# Altium integrated library trimble.IntLib: 14 symbols
Pins are listed as number, name and electrical type; pins without a type are passive.

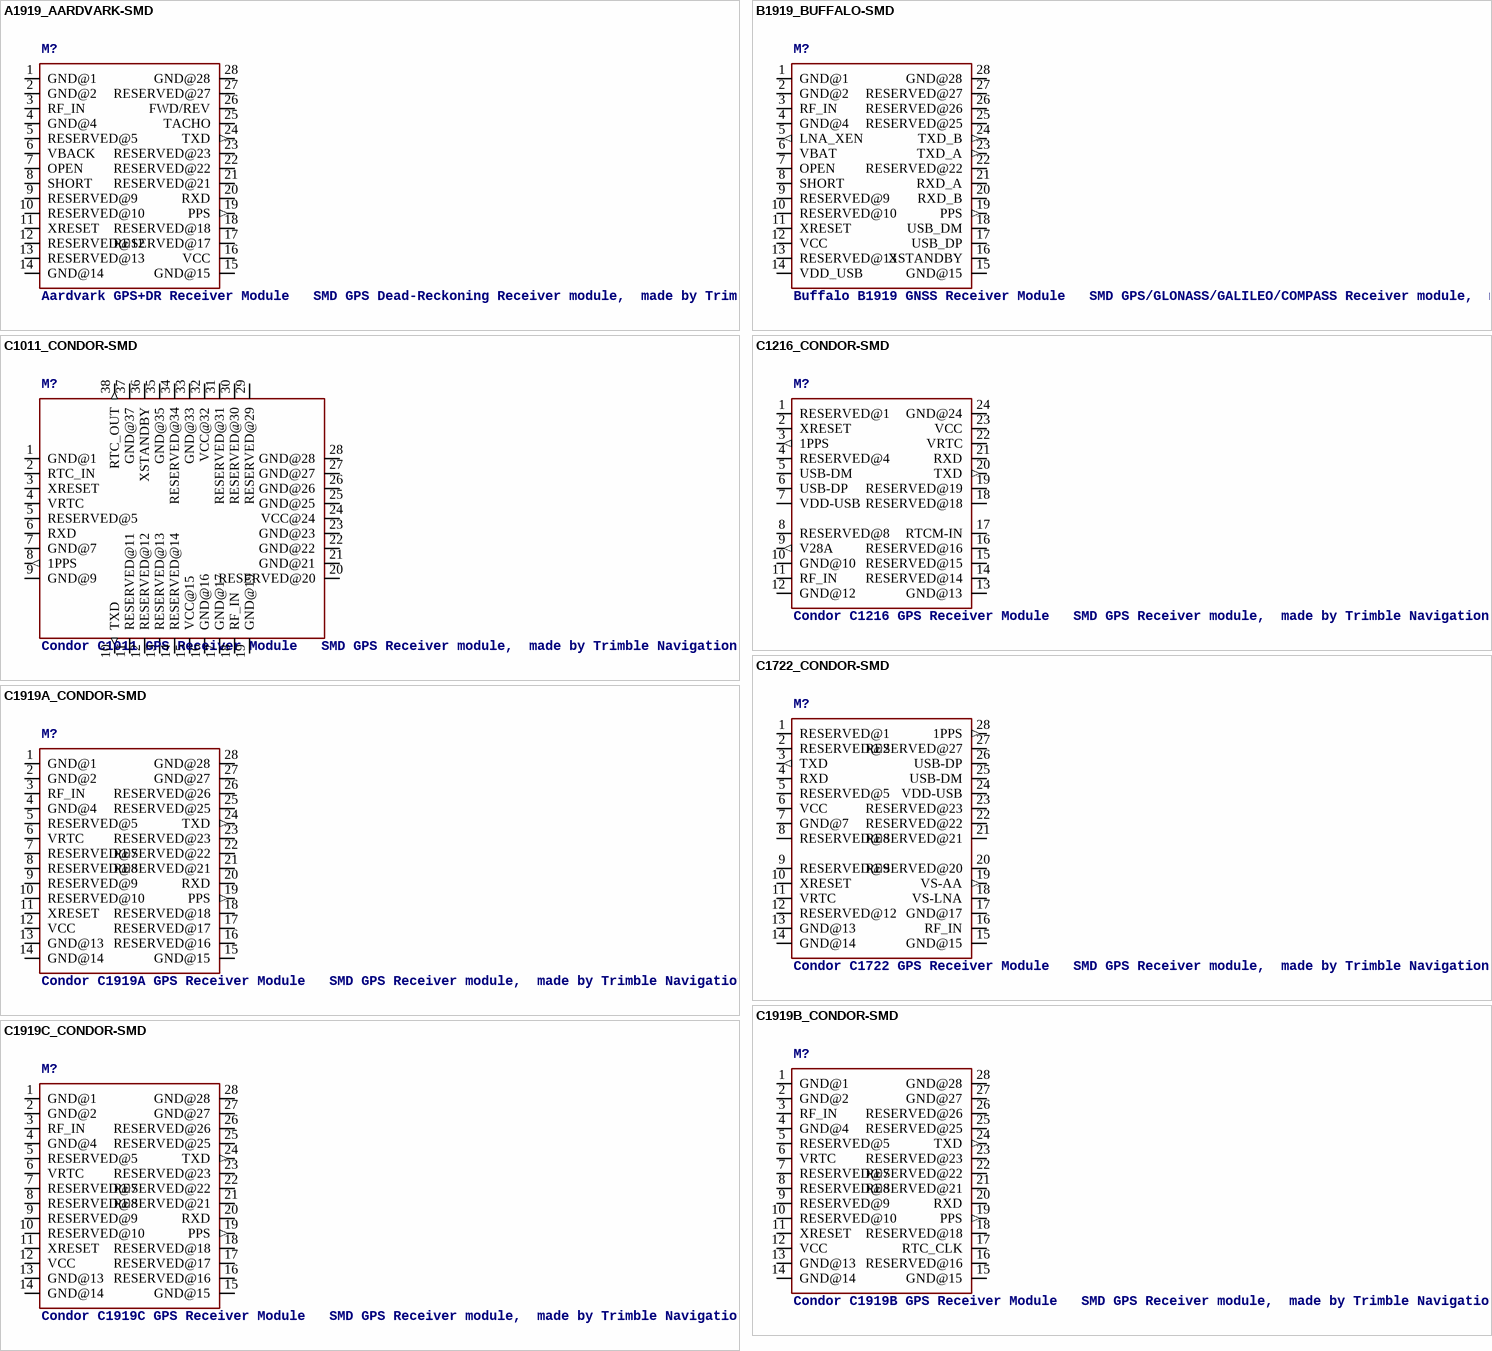
[diagram p0: symbols A1919_AARDVARK-SMD to C1919C_CONDOR-SMD]

## A1919_AARDVARK-SMD
designator M?, comment Aardvark GPS+DR Receiver Module   SMD GPS Dead-Reckoning Receiver module,  made by Trimble Navigation Ltd, Embedded Systems Group   Partnumber: 88788-30 and 88788-50    Datasheet, User Manual and Tools   Created by Trimble Navigation Ltd, Author: Christian Voit
footprint 1919
pins: 1 GND@1 (power), 2 GND@2 (power), 3 RF_IN, 4 GND@4 (power), 5 RESERVED@5, 6 VBACK, 7 OPEN, 8 SHORT, 9 RESERVED@9, 10 RESERVED@10, 11 XRESET, 12 RESERVED@12, 13 RESERVED@13, 14 GND@14 (power), 15 GND@15 (power), 16 VCC (power), 17 RESERVED@17, 18 RESERVED@18, 19 PPS (out), 20 RXD, 21 RESERVED@21, 22 RESERVED@22, 23 RESERVED@23, 24 TXD (out), 25 TACHO, 26 FWD/REV, 27 RESERVED@27, 28 GND@28 (power)

## B1919_BUFFALO-SMD
designator M?, comment Buffalo B1919 GNSS Receiver Module   SMD GPS/GLONASS/GALILEO/COMPASS Receiver module,  made by Trimble Navigation Ltd, Embedded Systems Group   Partnumber: 99777-00    Datasheet, User Manual and Tools   Created by Trimble Navigation Ltd, Author: Christian Voit
footprint 1919
pins: 1 GND@1 (power), 2 GND@2 (power), 3 RF_IN, 4 GND@4 (power), 5 LNA_XEN (out), 6 VBAT, 7 OPEN, 8 SHORT, 9 RESERVED@9, 10 RESERVED@10, 11 XRESET, 12 VCC (power), 13 RESERVED@13, 14 VDD_USB (power), 15 GND@15 (power), 16 XSTANDBY, 17 USB_DP, 18 USB_DM, 19 PPS (out), 20 RXD_B, 21 RXD_A, 22 RESERVED@22, 23 TXD_A (out), 24 TXD_B (out), 25 RESERVED@25, 26 RESERVED@26, 27 RESERVED@27, 28 GND@28 (power)

## C1011_CONDOR-SMD
designator M?, comment Condor C1011 GPS Receiver Module   SMD GPS Receiver module,  made by Trimble Navigation Ltd, Embedded Systems Group   Partnumber: 68674-00    Datasheet, User Manual and Tools   Created by Trimble Navigation Ltd, Author: Christian Voit
footprint 1011
pins: 1 GND@1 (power), 2 RTC_IN, 3 XRESET, 4 VRTC, 5 RESERVED@5, 6 RXD, 7 GND@7 (power), 8 1PPS (out), 9 GND@9 (power), 10 TXD (out), 11 RESERVED@11, 12 RESERVED@12, 13 RESERVED@13, 14 RESERVED@14, 15 VCC@15 (power), 16 GND@16 (power), 17 GND@17 (power), 18 RF_IN, 19 GND@19 (power), 20 RESERVED@20, 21 GND@21 (power), 22 GND@22 (power), 23 GND@23 (power), 24 VCC@24 (power), 25 GND@25 (power), 26 GND@26 (power), 27 GND@27 (power), 28 GND@28 (power), 29 RESERVED@29, 30 RESERVED@30, 31 RESERVED@31, 32 VCC@32 (power), 33 GND@33 (power), 34 RESERVED@34, 35 GND@35 (power), 36 XSTANDBY, 37 GND@37 (power), 38 RTC_OUT (out)

## C1216_CONDOR-SMD
designator M?, comment Condor C1216 GPS Receiver Module   SMD GPS Receiver module,  made by Trimble Navigation Ltd, Embedded Systems Group   Partnumber: 68676-10    Datasheet, User Manual and Tools   Created by Trimble Navigation Ltd, Author: Christian Voit
footprint 1216
pins: 1 RESERVED@1, 2 XRESET, 3 1PPS (out), 4 RESERVED@4, 5 USB-DM, 6 USB-DP, 7 VDD-USB, 8 RESERVED@8, 9 V28A (out), 10 GND@10 (power), 11 RF_IN, 12 GND@12 (power), 13 GND@13 (power), 14 RESERVED@14, 15 RESERVED@15, 16 RESERVED@16, 17 RTCM-IN, 18 RESERVED@18, 19 RESERVED@19, 20 TXD (out), 21 RXD, 22 VRTC, 23 VCC (power), 24 GND@24 (power)

## C1722_CONDOR-SMD
designator M?, comment Condor C1722 GPS Receiver Module   SMD GPS Receiver module,  made by Trimble Navigation Ltd, Embedded Systems Group   Partnumber: 68675-00    Datasheet, User Manual and Tools   Created by Trimble Navigation Ltd, Author: Christian Voit
footprint 1722
pins: 1 RESERVED@1, 2 RESERVED@2, 3 TXD (out), 4 RXD, 5 RESERVED@5, 6 VCC (power), 7 GND@7 (power), 8 RESERVED@8, 9 RESERVED@9, 10 XRESET, 11 VRTC, 12 RESERVED@12, 13 GND@13 (power), 14 GND@14 (power), 15 GND@15 (power), 16 RF_IN, 17 GND@17 (power), 18 VS-LNA, 19 VS-AA (out), 20 RESERVED@20, 21 RESERVED@21, 22 RESERVED@22, 23 RESERVED@23, 24 VDD-USB, 25 USB-DM, 26 USB-DP, 27 RESERVED@27, 28 1PPS (out)

## C1919A_CONDOR-SMD
designator M?, comment Condor C1919A GPS Receiver Module   SMD GPS Receiver module,  made by Trimble Navigation Ltd, Embedded Systems Group   Partnumber: 67650-10    Datasheet, User Manual and Tools   Created by Trimble Navigation Ltd, Author: Christian Voit
footprint 1919
pins: 1 GND@1 (power), 2 GND@2 (power), 3 RF_IN, 4 GND@4 (power), 5 RESERVED@5, 6 VRTC, 7 RESERVED@7, 8 RESERVED@8, 9 RESERVED@9, 10 RESERVED@10, 11 XRESET, 12 VCC (power), 13 GND@13 (power), 14 GND@14 (power), 15 GND@15 (power), 16 RESERVED@16, 17 RESERVED@17, 18 RESERVED@18, 19 PPS (out), 20 RXD, 21 RESERVED@21, 22 RESERVED@22, 23 RESERVED@23, 24 TXD (out), 25 RESERVED@25, 26 RESERVED@26, 27 GND@27 (power), 28 GND@28 (power)

## C1919B_CONDOR-SMD
designator M?, comment Condor C1919B GPS Receiver Module   SMD GPS Receiver module,  made by Trimble Navigation Ltd, Embedded Systems Group   Partnumber: 67650-00    Datasheet, User Manual and Tools   Created by Trimble Navigation Ltd, Author: Christian Voit
footprint 1919
pins: 1 GND@1 (power), 2 GND@2 (power), 3 RF_IN, 4 GND@4 (power), 5 RESERVED@5, 6 VRTC, 7 RESERVED@7, 8 RESERVED@8, 9 RESERVED@9, 10 RESERVED@10, 11 XRESET, 12 VCC (power), 13 GND@13 (power), 14 GND@14 (power), 15 GND@15 (power), 16 RESERVED@16, 17 RTC_CLK, 18 RESERVED@18, 19 PPS (out), 20 RXD, 21 RESERVED@21, 22 RESERVED@22, 23 RESERVED@23, 24 TXD (out), 25 RESERVED@25, 26 RESERVED@26, 27 GND@27 (power), 28 GND@28 (power)

## C1919C_CONDOR-SMD
designator M?, comment Condor C1919C GPS Receiver Module   SMD GPS Receiver module,  made by Trimble Navigation Ltd, Embedded Systems Group   Partnumber: 67650-20    Datasheet, User Manual and Tools   Created by Trimble Navigation Ltd, Author: Christian Voit
footprint 1919
pins: 1 GND@1 (power), 2 GND@2 (power), 3 RF_IN, 4 GND@4 (power), 5 RESERVED@5, 6 VRTC, 7 RESERVED@7, 8 RESERVED@8, 9 RESERVED@9, 10 RESERVED@10, 11 XRESET, 12 VCC (power), 13 GND@13 (power), 14 GND@14 (power), 15 GND@15 (power), 16 RESERVED@16, 17 RESERVED@17, 18 RESERVED@18, 19 PPS (out), 20 RXD, 21 RESERVED@21, 22 RESERVED@22, 23 RESERVED@23, 24 TXD (out), 25 RESERVED@25, 26 RESERVED@26, 27 GND@27 (power), 28 GND@28 (power)

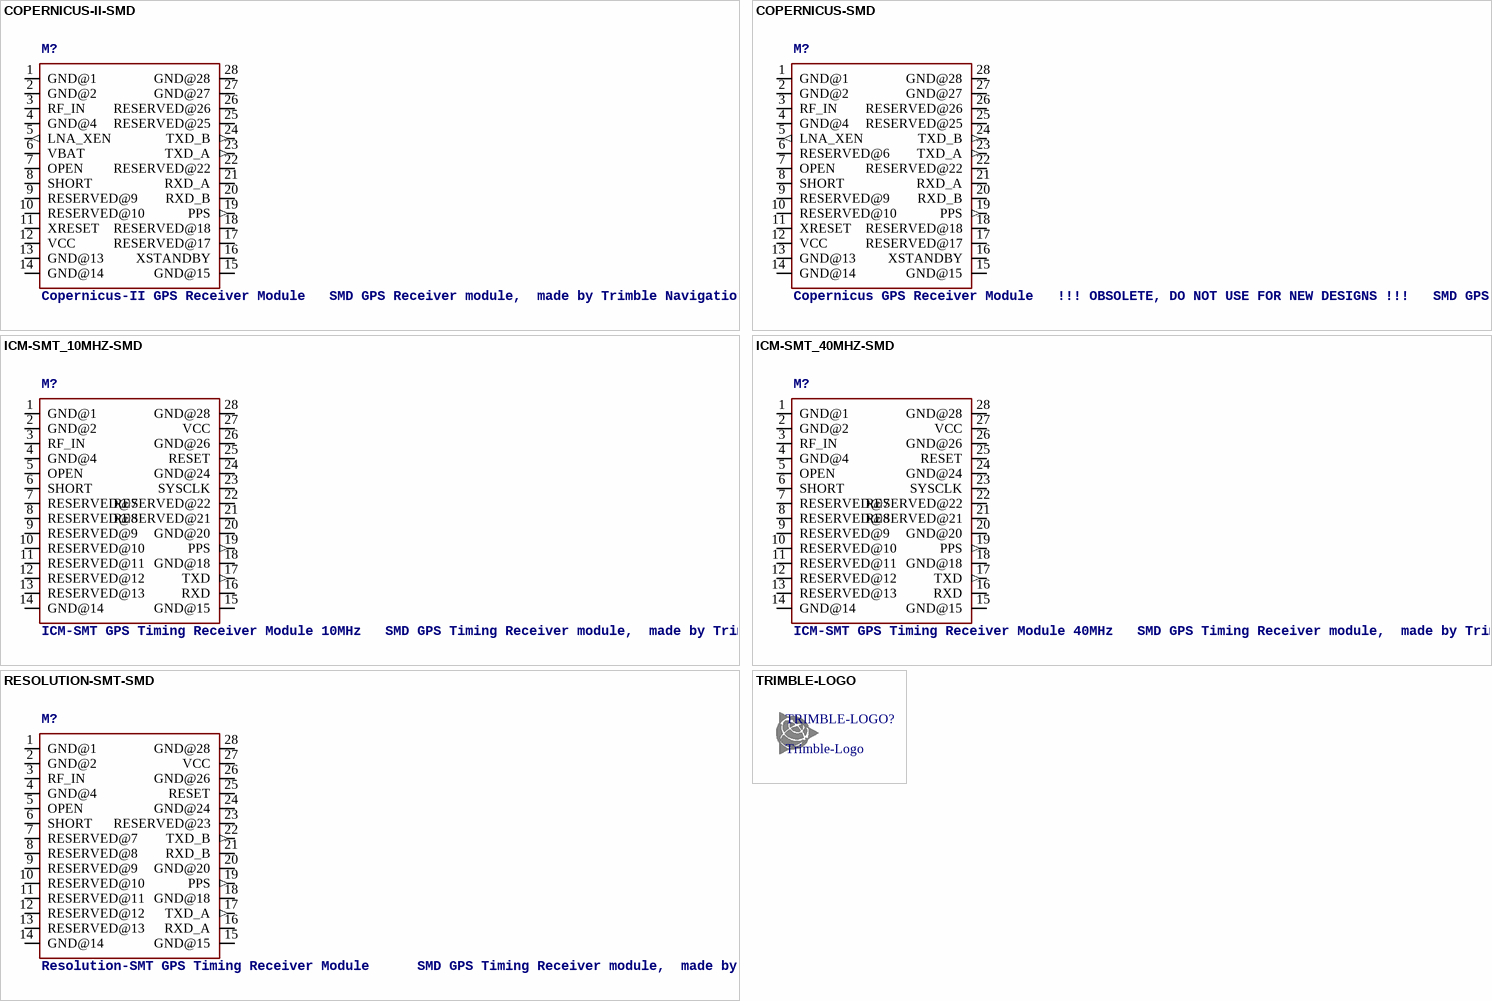
[diagram p1: symbols COPERNICUS-II-SMD to TRIMBLE-LOGO]

## COPERNICUS-II-SMD
designator M?, comment Copernicus-II GPS Receiver Module   SMD GPS Receiver module,  made by Trimble Navigation Ltd, Embedded Systems Group   Partnumber: 63530-00 and 63530-10    Datasheet, User Manual and Tools   Created by Trimble Navigation Ltd, Author: Christian Voit
footprint 1919
pins: 1 GND@1 (power), 2 GND@2 (power), 3 RF_IN, 4 GND@4 (power), 5 LNA_XEN (out), 6 VBAT, 7 OPEN, 8 SHORT, 9 RESERVED@9, 10 RESERVED@10, 11 XRESET, 12 VCC (power), 13 GND@13 (power), 14 GND@14 (power), 15 GND@15 (power), 16 XSTANDBY, 17 RESERVED@17, 18 RESERVED@18, 19 PPS (out), 20 RXD_B, 21 RXD_A, 22 RESERVED@22, 23 TXD_A (out), 24 TXD_B (out), 25 RESERVED@25, 26 RESERVED@26, 27 GND@27 (power), 28 GND@28 (power)

## COPERNICUS-SMD
designator M?, comment Copernicus GPS Receiver Module   !!! OBSOLETE, DO NOT USE FOR NEW DESIGNS !!!   SMD GPS Receiver module,  made by Trimble Navigation Ltd, Embedded Systems Group   Partnumber: 58048-00, 58048-10 and 58048-20   Created by Trimble Navigation Ltd, Author: Christian Voit
footprint 1919
pins: 1 GND@1 (power), 2 GND@2 (power), 3 RF_IN, 4 GND@4 (power), 5 LNA_XEN (out), 6 RESERVED@6, 7 OPEN, 8 SHORT, 9 RESERVED@9, 10 RESERVED@10, 11 XRESET, 12 VCC (power), 13 GND@13 (power), 14 GND@14 (power), 15 GND@15 (power), 16 XSTANDBY, 17 RESERVED@17, 18 RESERVED@18, 19 PPS (out), 20 RXD_B, 21 RXD_A, 22 RESERVED@22, 23 TXD_A (out), 24 TXD_B (out), 25 RESERVED@25, 26 RESERVED@26, 27 GND@27 (power), 28 GND@28 (power)

## ICM-SMT_10MHZ-SMD
designator M?, comment ICM-SMT GPS Timing Receiver Module 10MHz   SMD GPS Timing Receiver module,  made by Trimble Navigation Ltd, Timing Group   Partnumber: 77766-00    Datasheet, User Manual and Tools   Created by Trimble Navigation Ltd, Author: Christian Voit
footprint 1919
pins: 1 GND@1 (power), 2 GND@2 (power), 3 RF_IN, 4 GND@4 (power), 5 OPEN, 6 SHORT, 7 RESERVED@7, 8 RESERVED@8, 9 RESERVED@9, 10 RESERVED@10, 11 RESERVED@11, 12 RESERVED@12, 13 RESERVED@13, 14 GND@14 (power), 15 GND@15 (power), 16 RXD, 17 TXD (out), 18 GND@18 (power), 19 PPS (out), 20 GND@20 (power), 21 RESERVED@21, 22 RESERVED@22, 23 SYSCLK, 24 GND@24 (power), 25 RESET, 26 GND@26 (power), 27 VCC (power), 28 GND@28 (power)

## ICM-SMT_40MHZ-SMD
designator M?, comment ICM-SMT GPS Timing Receiver Module 40MHz   SMD GPS Timing Receiver module,  made by Trimble Navigation Ltd, Timing Group   Partnumber: 66650-19    Datasheet, User Manual and Tools   Created by Trimble Navigation Ltd, Author: Christian Voit
footprint 1919
pins: 1 GND@1 (power), 2 GND@2 (power), 3 RF_IN, 4 GND@4 (power), 5 OPEN, 6 SHORT, 7 RESERVED@7, 8 RESERVED@8, 9 RESERVED@9, 10 RESERVED@10, 11 RESERVED@11, 12 RESERVED@12, 13 RESERVED@13, 14 GND@14 (power), 15 GND@15 (power), 16 RXD, 17 TXD (out), 18 GND@18 (power), 19 PPS (out), 20 GND@20 (power), 21 RESERVED@21, 22 RESERVED@22, 23 SYSCLK, 24 GND@24 (power), 25 RESET, 26 GND@26 (power), 27 VCC (power), 28 GND@28 (power)

## RESOLUTION-SMT-SMD
designator M?, comment Resolution-SMT GPS Timing Receiver Module      SMD GPS Timing Receiver module,  made by Trimble Navigation Ltd, Timing Group   Partnumber: 66266-00    Datasheet, User Manual and Tools   Created by Trimble Navigation Ltd, Author: Christian Voit
footprint 1919
pins: 1 GND@1 (power), 2 GND@2 (power), 3 RF_IN, 4 GND@4 (power), 5 OPEN, 6 SHORT, 7 RESERVED@7, 8 RESERVED@8, 9 RESERVED@9, 10 RESERVED@10, 11 RESERVED@11, 12 RESERVED@12, 13 RESERVED@13, 14 GND@14 (power), 15 GND@15 (power), 16 RXD_A, 17 TXD_A (out), 18 GND@18 (power), 19 PPS (out), 20 GND@20 (power), 21 RXD_B, 22 TXD_B (out), 23 RESERVED@23, 24 GND@24 (power), 25 RESET, 26 GND@26 (power), 27 VCC (power), 28 GND@28 (power)

## TRIMBLE-LOGO
designator TRIMBLE-LOGO?, comment Trimble-Logo
footprint TRIMBLE-LOGO